# Altium schematic symbol library myDevices.SchLib: 13 symbols
Pins are listed as number, name and electrical type; pins without a type are passive.

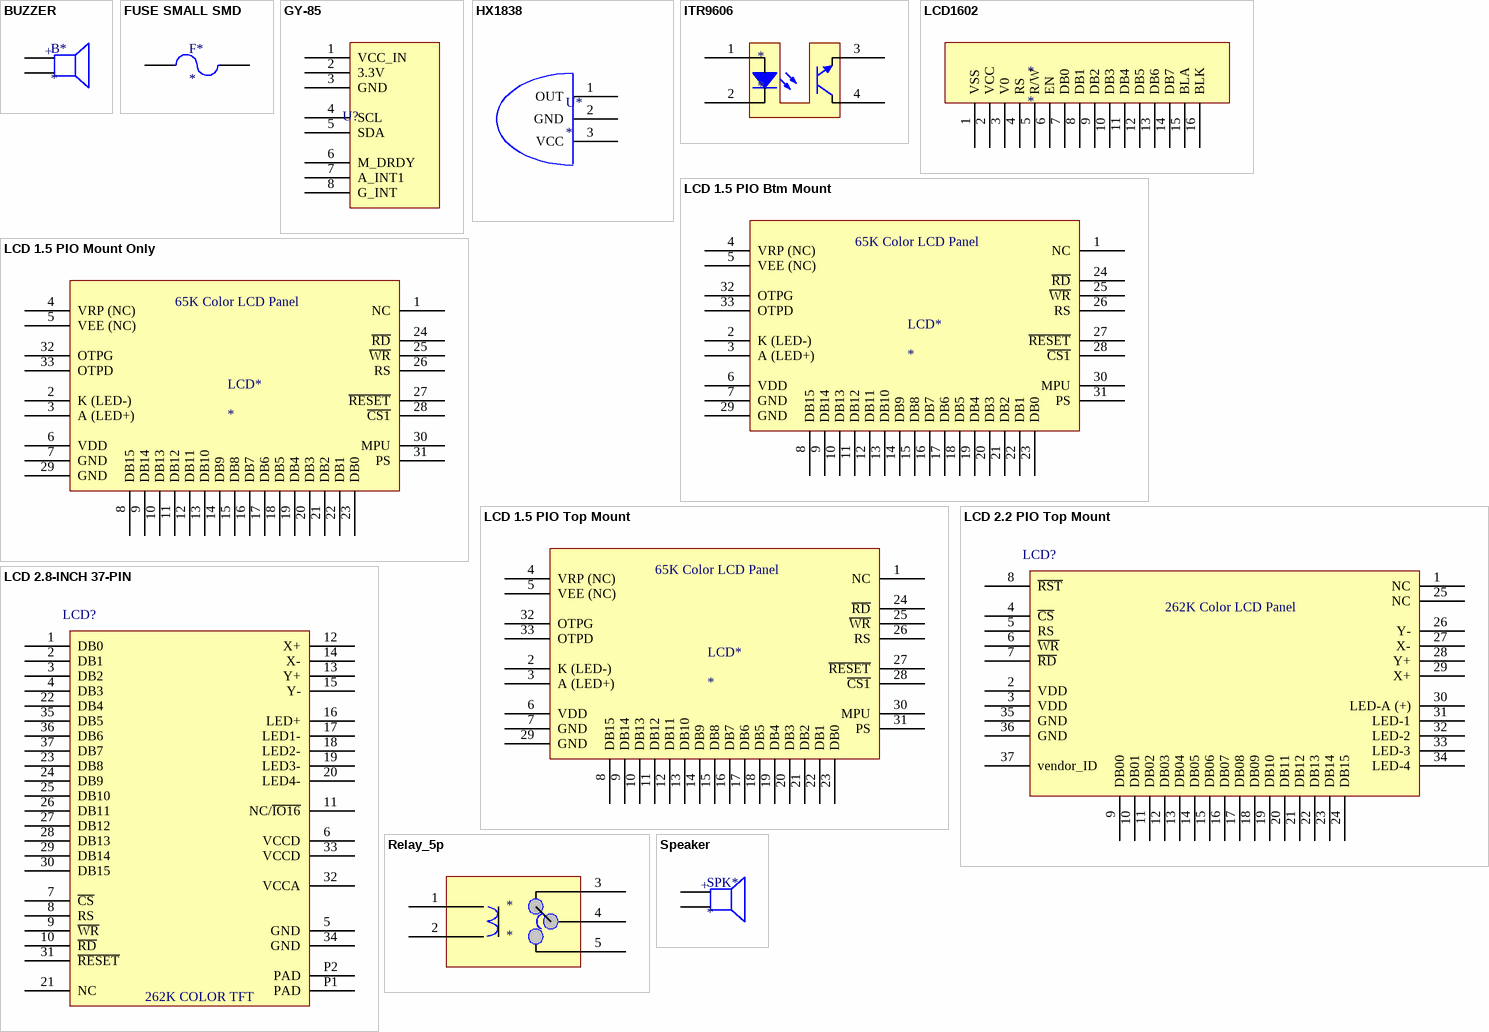
[diagram p0: symbols BUZZER to Speaker]

## BUZZER
designator B*
footprint BUZZER
pins: 1, 2
text: +

## FUSE SMALL SMD
designator F*
footprint Fuse Small SMD (Small Fuse)
pins: 1, 2

## GY-85
designator U?  (value not drawn)
footprint GY-85
pins: 1 VCC_IN, 2 3.3V, 3 GND, 4 SCL, 5 SDA, 6 M_DRDY, 7 A_INT1, 8 G_INT

## HX1838
designator U*
footprint HX1838
pins: 1 OUT, 2 GND, 3 VCC

## ITR9606
designator *
pins: 1, 2, 3, 4

## LCD1602
designator *
footprint LCD1602
pins: 1 VSS, 2 VCC, 3 V0, 4 RS, 5 R/W, 6 EN, 7 DB0, 8 DB1, 9 DB2, 10 DB3, 11 DB4, 12 DB5, 13 DB6, 14 DB7, 15 BLA, 16 BLK

## LCD 1.5 PIO Btm Mount
designator LCD*
footprint LCD 1.5 PIO Btm Mount (LJ41-4004A)
pins: 1 NC, 2 K (LED-), 3 A (LED+), 4 VRP (NC), 5 VEE (NC), 6 VDD, 7 GND, 8 DB15, 9 DB14, 10 DB13, 11 DB12, 12 DB11, 13 DB10, 14 DB9, 15 DB8, 16 DB7, 17 DB6, 18 DB5, 19 DB4, 20 DB3, 21 DB2, 22 DB1, 23 DB0, 24 ~{RD}, 25 ~{WR}, 26 RS, 27 ~{RESET}, 28 ~{CS1}, 29 GND, 30 MPU, 31 PS, 32 OTPG, 33 OTPD
text: 65K Color LCD Panel

## LCD 1.5 PIO Mount Only
designator LCD*
footprint LCD 1.5 PIO Mount Only (LJ41-4004A)
pins: 1 NC, 2 K (LED-), 3 A (LED+), 4 VRP (NC), 5 VEE (NC), 6 VDD, 7 GND, 8 DB15, 9 DB14, 10 DB13, 11 DB12, 12 DB11, 13 DB10, 14 DB9, 15 DB8, 16 DB7, 17 DB6, 18 DB5, 19 DB4, 20 DB3, 21 DB2, 22 DB1, 23 DB0, 24 ~{RD}, 25 ~{WR}, 26 RS, 27 ~{RESET}, 28 ~{CS1}, 29 GND, 30 MPU, 31 PS, 32 OTPG, 33 OTPD
text: 65K Color LCD Panel

## LCD 1.5 PIO Top Mount
designator LCD*
footprint LCD 1.5 PIO Top Mount (LJ41-4004A)
pins: 1 NC, 2 K (LED-), 3 A (LED+), 4 VRP (NC), 5 VEE (NC), 6 VDD, 7 GND, 8 DB15, 9 DB14, 10 DB13, 11 DB12, 12 DB11, 13 DB10, 14 DB9, 15 DB8, 16 DB7, 17 DB6, 18 DB5, 19 DB4, 20 DB3, 21 DB2, 22 DB1, 23 DB0, 24 ~{RD}, 25 ~{WR}, 26 RS, 27 ~{RESET}, 28 ~{CS1}, 29 GND, 30 MPU, 31 PS, 32 OTPG, 33 OTPD
text: 65K Color LCD Panel

## LCD 2.2 PIO Top Mount
designator LCD?, comment LCD  (value not drawn)
LCD, Parallel I/O, 2.2 inch, 320x240
footprint LCD 2.2 PIO Top Mount (DST1003PH, 2.2-inch, 320x240)
pins: 1 NC, 2 VDD, 3 VDD, 4 ~{CS}, 5 RS, 6 ~{WR}, 7 ~{RD}, 8 ~{RST}, 9 DB00, 10 DB01, 11 DB02, 12 DB03, 13 DB04, 14 DB05, 15 DB06, 16 DB07, 17 DB08, 18 DB09, 19 DB10, 20 DB11, 21 DB12, 22 DB13, 23 DB14, 24 DB15, 25 NC, 26 Y-, 27 X-, 28 Y+, 29 X+, 30 LED-A (+), 31 LED-1, 32 LED-2, 33 LED-3, 34 LED-4, 35 GND, 36 GND, 37 vendor_ID
text: 262K Color LCD Panel

## LCD 2.8-INCH 37-PIN
designator LCD?, comment LCD  (value not drawn)
LCD, 16-BIT BUS, 2.8-INCH, 37-PIN
footprint LCD 2.8-INCH 16-BIT BUS 37-PIN (LED, 2.8-INCH, 16-BIT BUS, 37-PIN)
pins: 1 DB0, 2 DB1, 3 DB2, 4 DB3, 5 GND, 6 VCCD, 7 ~{CS}, 8 RS, 9 ~{WR}, 10 ~{RD}, 11 NC/~{IO16}, 12 X+, 13 Y+, 14 X-, 15 Y-, 16 LED+, 17 LED1-, 18 LED2-, 19 LED3-, 20 LED4-, 21 NC, 22 DB4, 23 DB8, 24 DB9, 25 DB10, 26 DB11, 27 DB12, 28 DB13, 29 DB14, 30 DB15, 31 ~{RESET}, 32 VCCA, 33 VCCD, 34 GND, 35 DB5, 36 DB6, 37 DB7, P1 PAD, P2 PAD
text: 262K COLOR TFT

## Relay_5p
designator *
footprint Relay_5p
pins: 1, 2, 3, 4, 5

## Speaker
designator SPK*
footprint Speaker
pins: 1, 2
text: +